# Altium footprint library 690-004-660-023.PcbLib: 1 footprints
Each footprint in its own frame and in the unit in brackets; x right, y up, seen from the top. Pads: shape width x height; smd on the part's side, far side on the other; paste and mask are expansions set on the pad; w line width, h text height; cw(c..) or ccw(c..) is an arc to the next point about the centre after c.
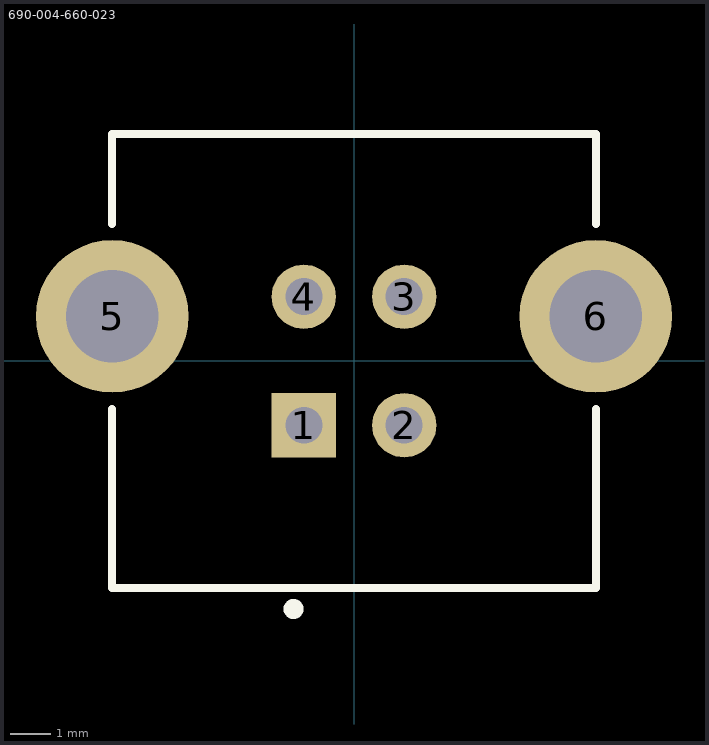
[diagram p0: the footprint, top view; thin cyan lines are the x and y axes]

## 690-004-660-023 [mm] "USB B vertical through hole connector"
height 15.55
pads (6):
  rect 1.6x1.6 hole 0.92: 1(-1.25,-1.6)
  round 1.6 hole 0.92: 2(1.25,-1.6) 3(1.25,1.6) 4(-1.25,1.6)
  round 3.8 hole 2.3: 5(-6.02,1.11) 6(6.02,1.11)
Top Overlay:
  circle w0.25: c-1.504,-6.173 r0.125
  lines w0.2: -6.02,-1.19 -6.02,-5.65 6.02,-5.65 6.02,-1.19 ; -6.02,3.41 -6.02,5.65 6.02,5.65 6.02,3.41
3D body: height 15.55, standoff -4.33, extent -7.352,-5.6 7.352,5.55